# Altium schematic symbol library MCU.SchLib: 3 symbols
Pins are listed as number, name and electrical type; pins without a type are passive.

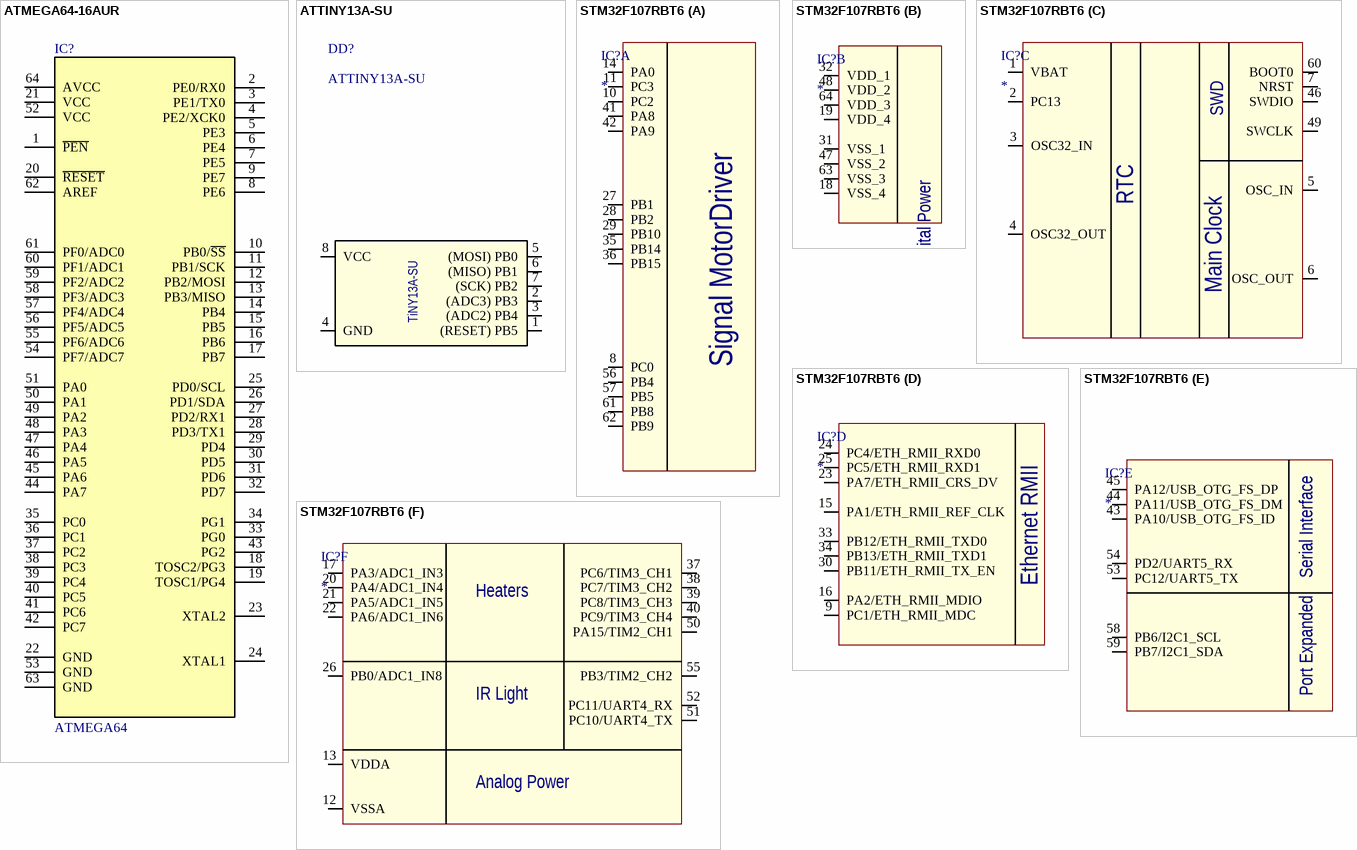
[diagram p0: symbols ATMEGA64-16AUR to STM32F107RBT6]

## ATMEGA64-16AUR
designator IC?, comment ATMEGA64
AVR ATmega Microcontroller IC / 8-Bit 16MHz / 64KB _32K x 16_ FLASH / 64-TQFP / 14x14; MF: Microchip; MP: ATMEGA64-16AUR; SnapEDA_Link: https://www.snapeda.com/parts/ATMEGA64-16AUR/Microchip/view-part/553382/?ref=snap; Price: None; Availability: Unavailable; Package: TQFP-64 Microchip; Value: *
footprint TQFP80P1600X1600X120-64N (TQFP, 64-Leads, Body 14,00x14,00mm, Pitch 0,80mm, IPC Medium Density)
pins: 1 ~{PEN}, 2 PE0/RX0, 3 PE1/TX0, 4 PE2/XCK0, 5 PE3, 6 PE4, 7 PE5, 8 PE6, 9 PE7, 10 PB0/~{SS}, 11 PB1/SCK, 12 PB2/MOSI, 13 PB3/MISO, 14 PB4, 15 PB5, 16 PB6, 17 PB7, 18 TOSC2/PG3, 19 TOSC1/PG4, 20 ~{RESET}, 21 VCC, 22 GND, 23 XTAL2, 24 XTAL1, 25 PD0/SCL, 26 PD1/SDA, 27 PD2/RX1, 28 PD3/TX1, 29 PD4, 30 PD5, 31 PD6, 32 PD7, 33 PG0, 34 PG1, 35 PC0, 36 PC1, 37 PC2, 38 PC3, 39 PC4, 40 PC5, 41 PC6, 42 PC7, 43 PG2, 44 PA7, 45 PA6, 46 PA5, 47 PA4, 48 PA3, 49 PA2, 50 PA1, 51 PA0, 52 VCC, 53 GND, 54 PF7/ADC7, 55 PF6/ADC6, 56 PF5/ADC5, 57 PF4/ADC4, 58 PF3/ADC3, 59 PF2/ADC2, 60 PF1/ADC1, 61 PF0/ADC0, 62 AREF, 63 GND, 64 AVCC

## ATTINY13A-SU
designator DD?
low-power CMOS 8-bit microcontroller; Mfr_Name: Microchip; Copyright: Copyright (C) 2021 Ultra Librarian. All rights reserved.; Manufacturer_Part_Number: ATTINY13A-SU; RefDes: RefDes; Type: DEV
footprint 8S2_ATM
footprint 8S2_ATM-L
footprint 8S2_ATM-M
pins: 1 (RESET) PB5 (io), 2 (ADC3) PB3 (io), 3 (ADC2) PB4 (io), 4 GND (power), 5 (MOSI) PB0 (io), 6 (MISO) PB1 (io), 7 (SCK) PB2 (io), 8 VCC (power)
text: TiNY13A-SU

## STM32F107RBT6
designator IC?
Integrated Circuit; Manufacturer_Name: STMicroelectronics; Manufacturer_Part_Number: STM32F107RBT6; Datasheet Link: http://www.st.com/st-web-ui/static/active/en/resource/technical/document/datasheet/CD00220364.pdf; Height: 1.6mm; Mouser Part Number: 511-STM32F107RBT6; Mouser Price/Stock: https://www.mouser.co.uk/ProductDetail/STMicroelectronics/STM32F107RBT6?qs=1XJIe8X6XT2G4kHBgIuILw%3D%3D; Arrow Part Number: STM32F107RBT6; Arrow Price/Stock: https://www.arrow.com/en/products/stm32f107rbt6/stmicroelectronics
footprint QFP50P1200X1200X160-64N
part A pins: 8 PC0, 10 PC2, 11 PC3, 14 PA0, 27 PB1, 28 PB2, 29 PB10, 35 PB14, 36 PB15, 41 PA8, 42 PA9, 56 PB4, 57 PB5, 61 PB8, 62 PB9
part B pins: 18 VSS_4, 19 VDD_4, 31 VSS_1, 32 VDD_1, 47 VSS_2, 48 VDD_2, 63 VSS_3, 64 VDD_3
part C pins: 1 VBAT, 2 PC13, 3 OSC32_IN, 4 OSC32_OUT, 5 OSC_IN, 6 OSC_OUT, 7 NRST, 46 SWDIO, 49 SWCLK, 60 BOOT0
part D pins: 9 PC1/ETH_RMII_MDC, 15 PA1/ETH_RMII_REF_CLK, 16 PA2/ETH_RMII_MDIO, 23 PA7/ETH_RMII_CRS_DV, 24 PC4/ETH_RMII_RXD0, 25 PC5/ETH_RMII_RXD1, 30 PB11/ETH_RMII_TX_EN, 33 PB12/ETH_RMII_TXD0, 34 PB13/ETH_RMII_TXD1
part E pins: 43 PA10/USB_OTG_FS_ID, 44 PA11/USB_OTG_FS_DM, 45 PA12/USB_OTG_FS_DP, 53 PC12/UART5_TX, 54 PD2/UART5_RX, 58 PB6/I2C1_SCL, 59 PB7/I2C1_SDA
part F pins: 12 VSSA, 13 VDDA, 17 PA3/ADC1_IN3, 20 PA4/ADC1_IN4, 21 PA5/ADC1_IN5, 22 PA6/ADC1_IN6, 26 PB0/ADC1_IN8, 37 PC6/TIM3_CH1, 38 PC7/TIM3_CH2, 39 PC8/TIM3_CH3, 40 PC9/TIM3_CH4, 50 PA15/TIM2_CH1, 51 PC10/UART4_TX, 52 PC11/UART4_RX, 55 PB3/TIM2_CH2
part A text: Signal MotorDriver
part B text: Digital Power
part C text: SWD; RTC; Main Clock
part D text: Ethernet RMII
part E text: Serial Interface; Port Expanded
part F text: Heaters; IR Light; Analog Power